# EAGLE library part STM32C011F4P6 (library STM32C011F4P6)
Check availability <https://pricing.snapeda.com/parts/STM32C011F4P6/STMicroelectronics/view-part?ref=eda>
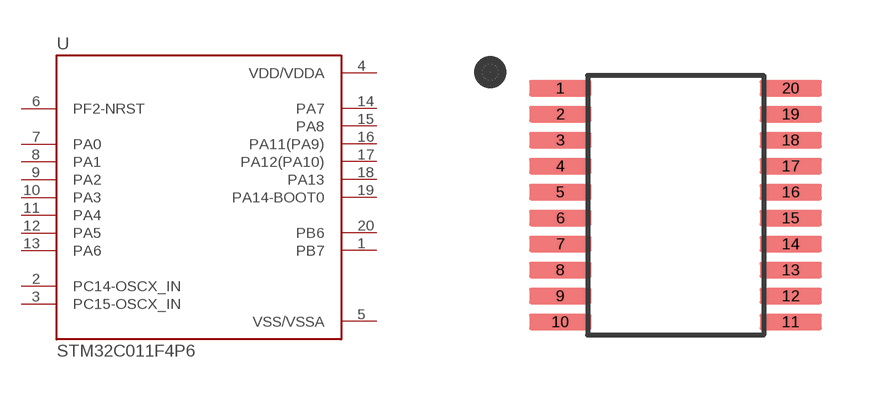
[diagram p0: symbol with the pads of SOP65P640X120-20N; footprint SOP65P640X120-20N]

Designator prefix U

## STM32C011F4P6 (AVAILABILITY: In Stock; CHECK_PRICES: https://www.snapeda.com/parts/STM32C011F4P6/STMicroelectronics/view-part/?ref=eda; DESCRIPTION: ARM Microcontrollers - MCU Mainstream Arm Cortex-M0+ MCU 6 Kbytes Flash 6 Kbytes RAM 48 MHz CPU 2x USART; MF: STMicroelectronics; MP: STM32C011F4P6; PACKAGE: None; PRICE: None; SNAPEDA_LINK: https://www.snapeda.com/parts/STM32C011F4P6/STMicroelectronics/view-part/?ref=snap)  [SOP65P640X120-20N]
1  PB7
2  PC14-OSCX_IN
3  PC15-OSCX_IN
4  VDD/VDDA  pwr
5  VSS/VSSA  pwr
6  PF2-NRST
7  PA0
8  PA1
9  PA2
10  PA3
11  PA4
12  PA5
13  PA6
14  PA7
15  PA8
16  PA11(PA9)
17  PA12(PA10)
18  PA13
19  PA14-BOOT0
20  PB6

## Footprint SOP65P640X120-20N (pad centres in mm)
smd 1.56 x 0.41: 1 -2.88,2.925; 2 -2.88,2.275; 3 -2.88,1.625; 4 -2.88,0.975; 5 -2.88,0.325; 6 -2.88,-0.325; 7 -2.88,-0.975; 8 -2.88,-1.625; 9 -2.88,-2.275; 10 -2.88,-2.925; 11 2.88,-2.925; 12 2.88,-2.275; 13 2.88,-1.625; 14 2.88,-0.975; 15 2.88,-0.325; 16 2.88,0.325; 17 2.88,0.975; 18 2.88,1.625; 19 2.88,2.275; 20 2.88,2.925